# Altium footprint library GOSTCrystal.PcbLib: 9 footprints
Each footprint in its own frame and in the unit in brackets; x right, y up, seen from the top. Pads: shape width x height; smd on the part's side, far side on the other; paste and mask are expansions set on the pad; w line width, h text height; cw(c..) or ccw(c..) is an arc to the next point about the centre after c.
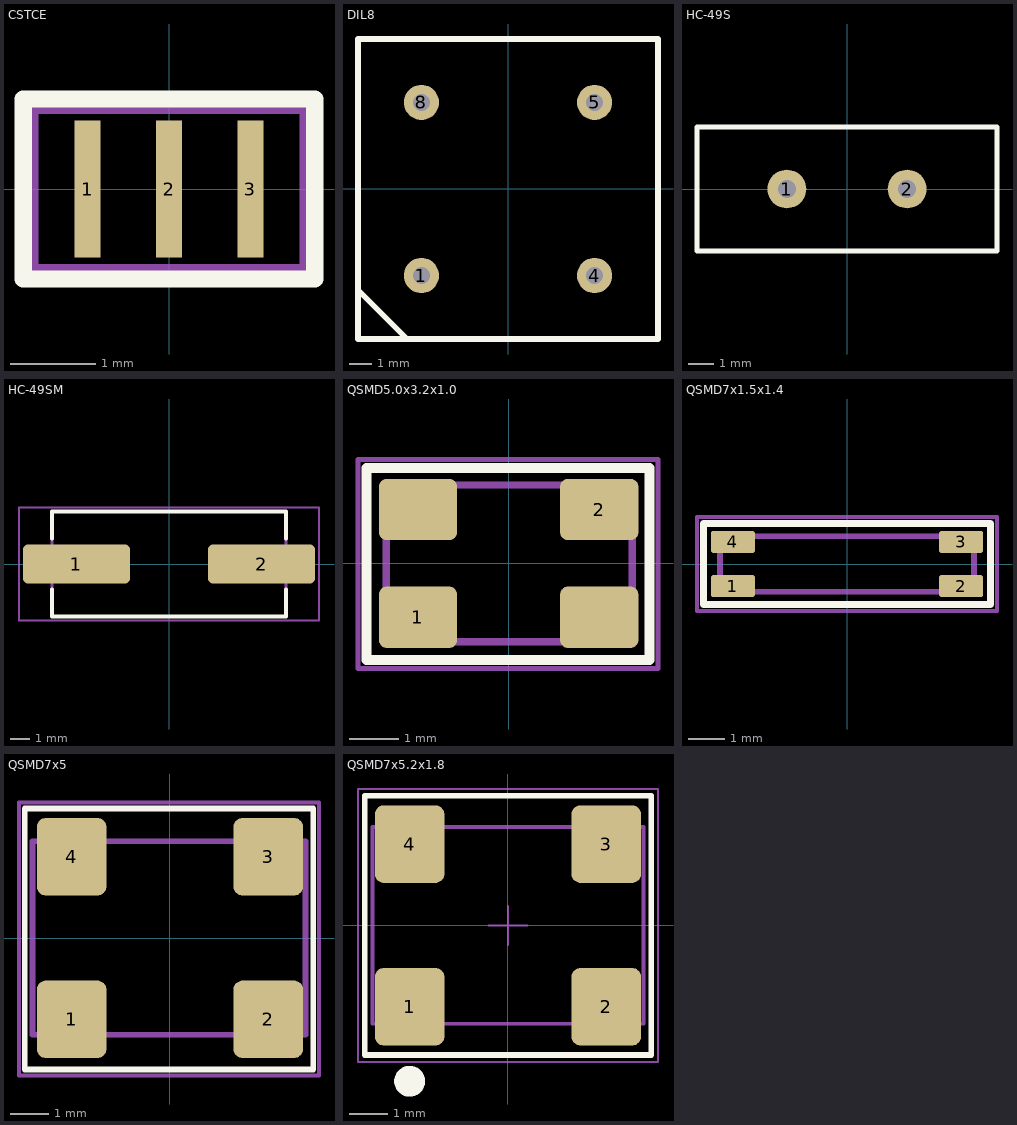
[diagram p0: the footprints below, top view; thin cyan lines are the x and y axes]

## CSTCE [mm]
pads (3):
  rect 0.3x1.6 smd: 1(-0.95,0) 2(0,0) 3(0.95,0)
Top Overlay:
  lines w0.2: -1.7,-1.05 1.7,-1.05 1.7,1.05 -1.7,1.05 -1.7,-1.05
Mechanical 9:
  text ".Comment" at -1.2,1.3 h0.6
  text ".Designator" at -1.6,2 h0.8
Mechanical 11:
  lines w0.15: -1.6,-0.95 -1.6,0 -1.6,0.95 1.6,0.95 1.6,-0.95 -1.6,-0.95
Mechanical 15:
  lines w0.15: -1.7,-1.05 1.7,-1.05 1.7,1.05 -1.7,1.05 -1.7,-1.05
3D body "SW3dPS-CSTCE_V-1.STEP": height 1.02, standoff -0.09, extent -1.6,-0.65 1.6,0.65

## DIL8 [mm] "Кварцевый генератор 12.9х12.9"
pads (4):
  round 1.55 hole 0.75: 1(-3.81,-3.81) 4(3.81,-3.81) 5(3.81,3.81) 8(-3.81,3.81)
Top Overlay:
  lines w0.254: -6.6,-4.445 -6.6,-4.449 -4.445,-6.604 ; -6.6,-6.6 -6.6,6.6 6.6,6.6 6.6,-6.6 -6.6,-6.6
3D body "User Library-OSC_DIP-8.step": height 4.6, standoff -2, extent -6.35,-6.35 6.35,6.35

## HC-49S [mm] "Кварцевый резонатор"
pads (2):
  round 1.5 hole 0.7: 1(-2.325,0) 2(2.325,0)
Top Overlay:
  lines w0.2: -5.8,-2.4 -5.8,2.4 5.8,2.4 5.8,-2.4 -0.3,-2.4 -5.8,-2.4
Mechanical 9:
  text ".Designator" at -4.7,3.5 h3
Mechanical 10:
  text ".Comment" at -3.2,-4.2 h2
3D body "User Library-HC49_Crystal.step": height 3.6, standoff -12.7, extent -5.675,-2.325 5.675,2.325

## HC-49SM [mm] "Кварцевый резонатор поверхностного монтажа"
pads (2):
  rrect25% 5.5x2 smd: 1(-4.75,0) 2(4.75,0)
Top Overlay:
  lines w0.2: -6,-1.3 -6,-2.7 6,-2.7 6,-1.3 ; -6,1.3 -6,2.7 6,2.7 6,1.3
Mechanical 7:
  lines w0.15: -6,-2.7 6,-2.7 6,2.7 -6,2.7 -6,-2.7
Mechanical 9:
  text ".Designator" at -4.7,3.5 h3
Mechanical 10:
  text ".Comment" at -3.2,-4.2 h2
Mechanical 15:
  lines w0.1: -7.7,-2.9 -7.7,2.9 7.7,2.9 7.7,-2.9 -7.7,-2.9
3D body "User Library-HC49_Crystal_SM.step": height 4.6, standoff 0.09, extent -6.95,-2.5 6.95,2.5

## PCBComponent_1 [mm]
3D body "User Library-KX-327LT.step": height 1.4, standoff 0, extent -20.152,6.649 -13.252,8.149

## QSMD5.0x3.2x1.0 [mm] "Кварцевый резонатор KX-9A 8MHz"
height 1.2
pads (4):
  rrect25% 1.6x1.25 smd: 1(-1.85,-1.1) 2(1.85,1.1) ""(-1.85,1.1) ""(1.85,-1.1)
Top Overlay:
  lines w0.2: -2.9,-1.975 2.875,-1.975 2.875,1.95 -2.9,1.95 -2.9,-1.975
Mechanical 7:
  lines w0.15: -2.5,-1.6 2.525,-1.6 2.525,1.6 -2.5,1.6 -2.5,-1.6
Mechanical 9:
  text ".Designator" at -5,2.7 h3
Mechanical 10:
  text ".Comment" at -3,-3.5 h2
Mechanical 15:
  lines w0.1: -3.075,-2.15 3.05,-2.15 3.05,2.125 -3.075,2.125 -3.075,-2.15
3D body "User Library-GeyerElectronics_KX9A.step": height 1.01, standoff 0, extent -2.5,-1.6 2.5,1.6

## QSMD7x1.5x1.4 [mm]
height 1.4
pads (4):
  rrect25% 1.2x0.6 smd: 1(-3.1,-0.6) 2(3.1,-0.6) 3(3.1,0.6) 4(-3.1,0.6)
Top Overlay:
  lines w0.2: -3.9,-1.1 3.9,-1.1 3.9,1.1 -3.9,1.1 -3.9,-1.1
Mechanical 7:
  lines w0.15: -3.45,-0.75 3.45,-0.75 3.45,0.75 -3.45,0.75 -3.45,-0.75
Mechanical 9:
  text ".Designator" at -5,2.2 h3
Mechanical 10:
  text ".Comment" at -2.6,-2.7 h2
Mechanical 15:
  lines w0.1: -4.075,-1.275 4.075,-1.275 4.075,1.275 -4.075,1.275 -4.075,-1.275
3D body "User Library-KX-327LT.step": height 1.4, standoff 0, extent -3.45,-0.75 3.45,0.75

## QSMD7x5 [mm] "HG-2150CA 1.00MHz"
height 1.2
pads (4):
  rrect25% 1.8x2 smd: 1(-2.54,-2.1) 2(2.54,-2.1) 3(2.54,2.1) 4(-2.54,2.1)
Top Overlay:
  lines w0.15: -3.75,-3.4 3.7,-3.4 3.7,3.35 -3.75,3.35 -3.75,-3.4
Mechanical 7:
  lines w0.15: -3.55,-2.5 3.5,-2.5 3.5,2.5 -3.55,2.5 -3.55,-2.5
Mechanical 9:
  text ".Designator" at -4.7,3.9 h3
Mechanical 10:
  text ".Comment" at -3.1,-4.8 h2
Mechanical 15:
  lines w0.1: -3.9,-3.55 3.85,-3.55 3.85,3.5 -3.9,3.5 -3.9,-3.55
3D body "User Library-CFPS-73.step": height 1.52, standoff 0, extent -3.5,-2.51 3.5,2.51

## QSMD7x5.2x1.8 [mm]
height 1.2
pads (4):
  rrect25% 1.8x2 smd: 1(-2.54,-2.1) 2(2.54,-2.1) 3(2.54,2.1) 4(-2.54,2.1)
Top Overlay:
  circle w0.4: c-2.54,-4.025 r0.2
  lines w0.15: -3.7,-3.35 3.7,-3.35 3.7,3.35 -3.7,3.35 -3.7,-3.35
Mechanical 13:
  lines w0.1: -3.5,-2.54 3.5,-2.54 3.5,2.54 -3.5,2.54 -3.5,-2.54
Mechanical 15:
  lines w0.05: -0.5,0 0.5,0 ; 0,-0.5 0,0.5 ; -3.873,-3.525 -3.873,3.525 3.875,3.525 3.875,-3.525 -3.873,-3.525
3D body "User Library-KXO-97V.step": height 1.3, standoff 0, extent -3.5,-2.54 3.5,2.54